# Altium schematic symbol library ArtsyCal.SCHLIB: 29 symbols
Pins are listed as number, name and electrical type; pins without a type are passive.

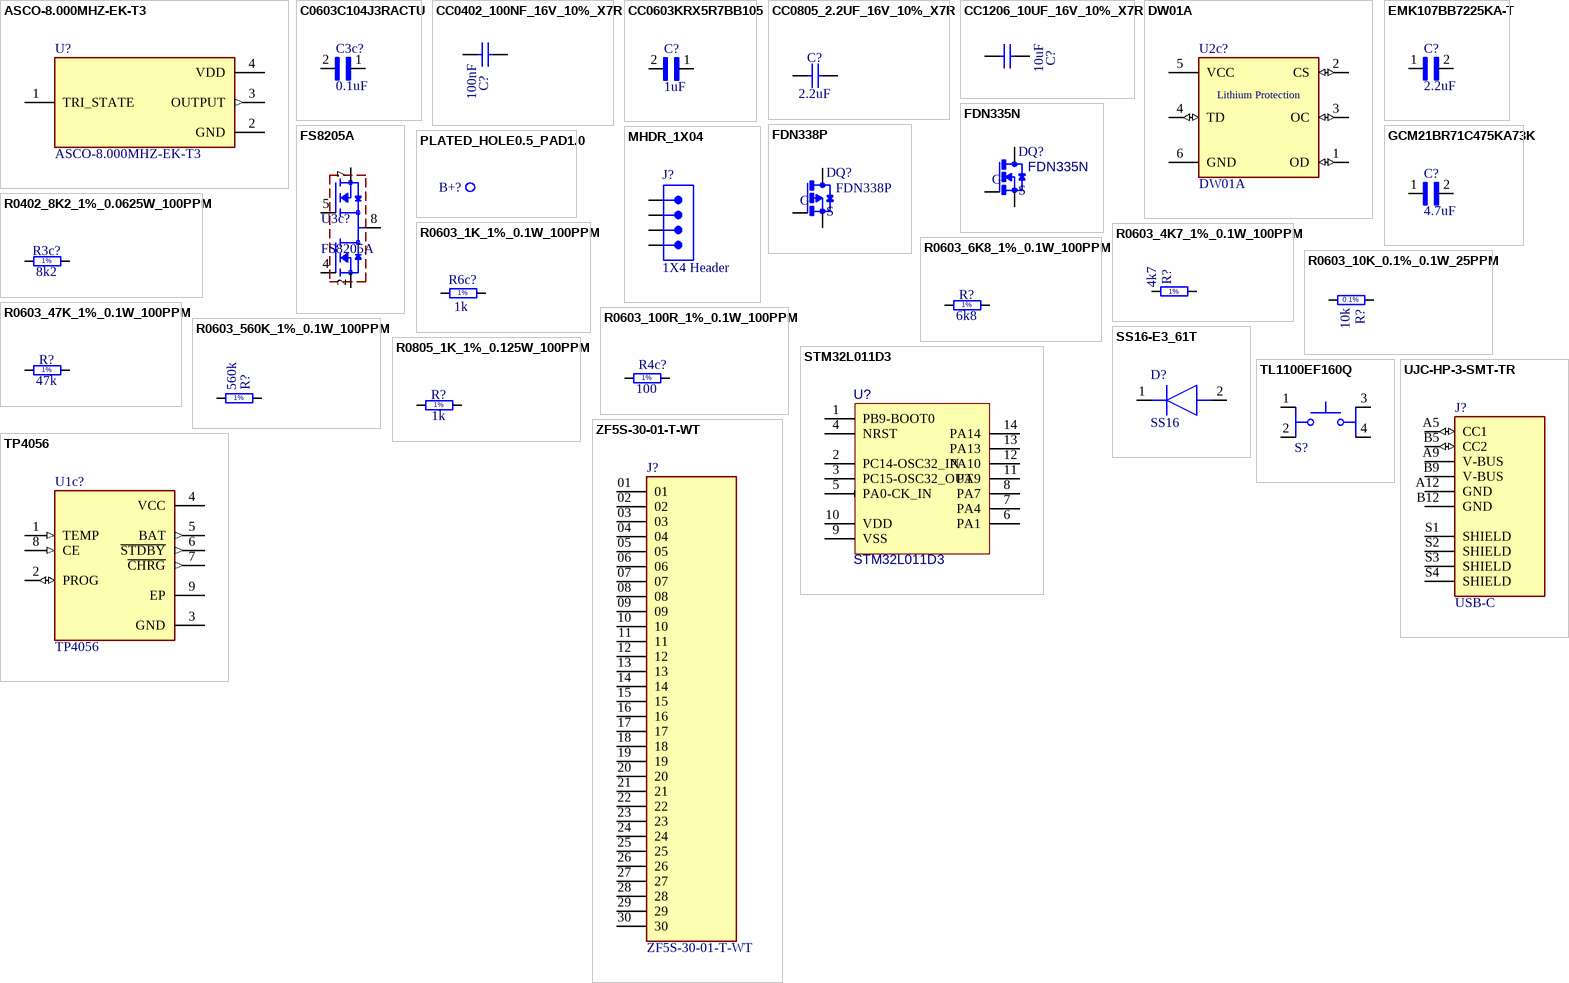
[diagram p0: symbols ASCO-8.000MHZ-EK-T3 to ZF5S-30-01-T-WT]

## ASCO-8.000MHZ-EK-T3
designator U?
Availability: Unavailable; Price: None; MP: ASCO-8.000MHZ-EK-T3; Package: None; Value: *
footprint XTAL_ASCO-8.000MHZ-EK-T3
pins: 1 TRI_STATE, 2 GND (power), 3 OUTPUT (out), 4 VDD (power)

## C0603C104J3RACTU
designator C3c?, comment 0.1uF
CAP CER 0.1UF 25V X7R 0603; MP: C0603C104J3RACTU; MF: {'manufacturer': u'KEMET'}; Value: 0.1uF; Package: None; Price: None; Availability: Unavailable
footprint CAPC1608X90
pins: 1, 2

## CC0402_100NF_16V_10%_X7R
designator C?, comment 100nF
Non-polarised capacitor; Part Number: CC0402_100NF_16V_10%_X7R; Part Description: SMD Multilayer Chip Ceramic Capacitor; Manufacturer: GENERIC; Manufacturer1 Part Number: GRM155R71C104KA88D; Voltage: 16V; TC: X7R; Tolerance: ±10%; Component Kind: Standard; Component Type: Standard; Footprint: CAPC1005X55N; Pin Count: 2; Value: 100nF; Status: Not Recommended; Manufacturer Part Number: CC0402_100NF_16V_10%_X7R; Case: 0402; Mounted: Yes; Socket: No; SMD: Yes; Sense: No; Manufacturer1 Example: MURATA; Manufacturer1 ComponentHeight: 0.55mm; HelpURL: \\cern.ch\dfs\Applications\Altium\Datasheets\CC0402_X7R_MURATA_GRM.pdf; Author: CERN DEM JLC; CreateDate: 12/5/2013; LatestRevisionDate: 12/3/2007
footprint CAPC1005X55N
pins: 1, 2

## CC0603KRX5R7BB105
designator C?, comment 1uF
1ÂµF Â±10% 16V Ceramic Capacitor X5R 0603 (1608 Metric); MP: CC0603KRX5R7BB105; MF: Yageo; Package: 0603 Yageo; SnapEDA_Link: https://www.snapeda.com/parts/CC0603KRX5R7BB105/Yageo/view-part/550330/?ref=snap; Purchase-URL: https://pricing.snapeda.com/search/part/CC0603KRX5R7BB105/?ref=eda; Value: *; Availability: Good; Price: None; Check_prices: https://www.snapeda.com/parts/CC0603KRX5R7BB105/Yageo/view-part/550330/?ref=eda
footprint CAPC1608X90
pins: 1, 2

## CC0805_2.2UF_16V_10%_X7R
designator C?, comment 2.2uF
Non-polarised capacitor; Part Number: CC0805_2.2UF_16V_10%_X7R; Part Description: SMD Multilayer Chip Ceramic Capacitor; Manufacturer: GENERIC; Manufacturer1 Part Number: GRM21BF51C225ZA01L; Voltage: 16V; TC: X7R; Tolerance: ±10%; Component Kind: Standard; Component Type: Standard; Footprint: CAPC2012X135N; Pin Count: 2; Value: 2.2uF; Status: Preferred; Manufacturer Part Number: CC0805_2.2UF_16V_10%_X7R; Case: 0805; Mounted: Yes; Socket: No; SMD: Yes; Sense: No; Manufacturer1 Example: MURATA; Manufacturer1 ComponentHeight: 1.5mm; HelpURL: \\cern.ch\dfs\Applications\Altium\Datasheets\CC0805_X7R_MURATA_GRM.pdf; Author: CERN DEM JLC; CreateDate: 03/12/2007; LatestRevisionDate: 18/09/2014
footprint CAPC2012X135N
pins: 1, 2

## CC1206_10UF_16V_10%_X7R
designator C?, comment 10uF
Non-polarised capacitor; Part Number: CC1206_10UF_16V_10%_X7R; Part Description: SMD Multilayer Chip Ceramic Capacitor; Manufacturer: GENERIC; Manufacturer1 Part Number: C1206C106K4RAC; Voltage: 16V; TC: X7R; Tolerance: ±10%; Component Kind: Standard; Component Type: Standard; Footprint: CAPC3216X140N; Pin Count: 2; Value: 10uF; Status: Preferred; Manufacturer Part Number: CC1206_10uF_16V_10%_X7R; Case: 1206; Mounted: Yes; Socket: No; SMD: Yes; Sense: No; Manufacturer1 Example: KEMET; Manufacturer1 ComponentHeight: 1.8mm; HelpURL: \\cern.ch\dfs\Applications\Altium\Datasheets\CC1206_X7R_KEMET.pdf; Author: CERN DEM JLC; CreateDate: 28/04/2009; LatestRevisionDate: 28/04/2009
footprint CAPC3216X140N
pins: 1, 2

## DW01A
designator U2c?
MF: {'manufacturer': u'Fortune Semiconductor'}; Price: None; Package: None; Value: *; MP: DW01A; Availability: Unavailable
footprint SOT23-6
pins: 1 OD (io), 2 CS (io), 3 OC (io), 4 TD (io), 5 VCC (power), 6 GND (power)
text: Lithium Protection

## EMK107BB7225KA-T
designator C?, comment 2.2uF
2.2ÂµF Â±10% 16V Ceramic Capacitor X7R 0603 (1608 Metric); MP: EMK107BB7225KA-T; MF: Taiyo Yuden; Package: 1608 Taiyo Yuden; Purchase-URL: https://pricing.snapeda.com/search/part/EMK107BB7225KA-T/?ref=eda; Check_prices: https://www.snapeda.com/parts/EMK107BB7225KA-T/Taiyo%20Yuden/view-part/1474310/?ref=eda; Digi-Key_Part_Number: 587-5835-1-ND; Value: *; SnapEDA_Link: https://www.snapeda.com/parts/EMK107BB7225KA-T/Taiyo%20Yuden/view-part/1474310/?ref=snap
footprint CAPC1709X100N
pins: 1, 2

## FDN335N
designator Q?
N-Channel 20V 1.7A _Ta_ 500mW _Ta_ Surface Mount SuperSOT-3; MF: ON Semiconductor; Value: *; Digi-Key_Purchase_URL: https://www.digikey.com.ar/product-detail/en/on-semiconductor/FDN335N/FDN335NCT-ND/965601?utm_source=snapeda&utm_medium=aggregator&utm_campaign=symbol; MP: FDN335N; Package: SC-59 ON Semiconductor; SnapEDA_Link: https://www.snapeda.com/parts/FDN335N/ON%20Semiconductor/view-part/1760117/?ref=snap; Digi-Key_Part_Number: FDN335NCT-ND
footprint SSOT-3
pins: 1 G, 2 S, 3 D

## FDN338P
designator Q?
P-Channel 20V 1.6A _Ta_ 500mW _Ta_ Surface Mount SuperSOT-3; MF: ON Semiconductor; Value: *; MP: FDN338P; SnapEDA_Link: https://www.snapeda.com/parts/FDN338P/ON%20Semiconductor/view-part/1741166/?ref=snap; Availability: Unavailable; Price: None; Package: SC-59 ON Semiconductor
footprint SSOT-3
pins: 1 G, 2 S, 3 D

## FS8205A
designator U3c?
N/A; MF: {'manufacturer': u'Fortune Semiconductor'}; Package: None; Value: *; Price: None; MP: FS8205A; Availability: Unavailable
footprint SOP65P640X120-8N
pins: 1 D12, 2 S1, 3 S1, 4 G1, 5 G2, 6 S2, 7 S2, 8 D12

## GCM21BR71C475KA73K
designator C?, comment 4.7uF
MF: {'manufacturer': u'Murata'}; MP: GCM21BR71C475KA73K; Availability: Unavailable; Price: None; Package: None; Value: 4.7uF
footprint CAPC2012X140N
pins: 1, 2

## MHDR_1X04
designator J?, comment 1X4 Header
Male Header 1X04
footprint MHDR1X04-254P (Male Header 1X04 with 2.54 mm Pitch)
pins: 1, 2, 3, 4
1 alternate drawing of the same symbol

## PLATED_HOLE0.5_PAD1.0
designator B+?, comment Plated Hole  (value not drawn)  (no BOM)
Single Terminal Socket; Part Number: PLATED_HOLE0.5_PAD1.0; Part Description: Plated Through Hole: Hole Dia.=0.5mm Pad Dia.=1.0mm; Mounted: No; Component Type: Standard (No BOM); Footprint: c100h50; Pin Count: 1; Family: Plated Hole; Socket: No; SMD: No; Sense: No; Status: None; ComponentHeight: 0mm; HelpURL: Undefined; Author: CERN DEM JMW; CreateDate: 06/01/2020; LatestRevisionDate: 06/01/2020; PackageDescription: Plated Through Hole: Hole Dia.=0.5mm Pad Dia.=1.0mm
footprint c100h50
pins: 1 (io)

## R0402_8K2_1%_0.0625W_100PPM
designator R3c?, comment 8k2
Resistor - 1%; Part Number: R0402_8K2_1%_0.0625W_100PPM; Part Description: General Purpose Thick Film Chip Resistor; Manufacturer: GENERIC; Manufacturer1 Part Number: 232270678202L; Power: 0.0625W; TC: ±100ppm/°C; PressFit: No; Component Kind: Standard; Component Type: Standard; Footprint: RESC1005X40N; Pin Count: 2; Value: 8k2; Status: Not Recommended; Tolerance: ±1%; Manufacturer Part Number: R0402_8K2_1%_0.0625W_100PPM; Case: 0402; Mounted: Yes; Sense: No; Socket: No; SMD: Yes; Manufacturer1 Example: YAGEO PHYCOMP; Manufacturer1 ComponentHeight: 0.4mm; HelpURL: \\cern.ch\dfs\Applications\Altium\Datasheets\R0402_Phycomp_RC0402.pdf; Author: CERN DEM JLC; CreateDate: 03/12/2007; LatestRevisionDate: 17/10/2012
footprint RESC1005X40N
pins: 1, 2
text: 1%

## R0603_1K_1%_0.1W_100PPM
designator R6c?, comment 1k
Resistor - 1%; Part Number: R0603_1K_1%_0.1W_100PPM; Part Description: General Purpose Thick Film Chip Resistor; Manufacturer: GENERIC; Manufacturer1 Part Number: NRC06F1001TRF; Power: 0.1W; TC: ±100ppm/°C; PressFit: No; Component Kind: Standard; Component Type: Standard; Footprint: RESC1608X55N; Pin Count: 2; Value: 1k; Status: Preferred; Tolerance: ±1%; Manufacturer Part Number: R0603_1K_1%_0.1W_100PPM; Case: 0603; Mounted: Yes; Sense: No; Socket: No; SMD: Yes; Manufacturer1 Example: NIC COMPONENT; Manufacturer1 ComponentHeight: 0.55mm; HelpURL: \\cern.ch\dfs\Applications\Altium\Datasheets\R0603_NIC_NRC.pdf; Author: CERN DEM JLC; CreateDate: 12/3/2007; LatestRevisionDate: 3/13/2008
footprint RESC1608X55N
pins: 1, 2
text: 1%

## R0603_4K7_1%_0.1W_100PPM
designator R?, comment 4k7
Resistor - 1%; Part Number: R0603_4K7_1%_0.1W_100PPM; Part Description: General Purpose Thick Film Chip Resistor; Manufacturer: GENERIC; Manufacturer1 Part Number: NRC06F4701TRF; Power: 0.1W; TC: ±100ppm/°C; PressFit: No; Component Kind: Standard; Component Type: Standard; Footprint: RESC1608X55N; Pin Count: 2; Value: 4k7; Status: Preferred; Tolerance: ±1%; Manufacturer Part Number: R0603_4K7_1%_0.1W_100PPM; Case: 0603; Mounted: Yes; Sense: No; Socket: No; SMD: Yes; Manufacturer1 Example: NIC COMPONENT; Manufacturer1 ComponentHeight: 0.55mm; HelpURL: \\cern.ch\dfs\Applications\Altium\Datasheets\R0603_NIC_NRC.pdf; Author: CERN DEM JLC; CreateDate: 03/12/2007; LatestRevisionDate: 13/03/2008
footprint RESC1608X55N
pins: 1, 2
text: 1%

## R0603_6K8_1%_0.1W_100PPM
designator R?, comment 6k8
Resistor - 1%; Part Number: R0603_6K8_1%_0.1W_100PPM; Part Description: General Purpose Thick Film Chip Resistor; Manufacturer: GENERIC; Manufacturer1 Part Number: NRC06F6801TRF; Power: 0.1W; TC: ±100ppm/°C; PressFit: No; Component Kind: Standard; Component Type: Standard; Footprint: RESC1608X55N; Pin Count: 2; Value: 6k8; Status: Preferred; Tolerance: ±1%; Manufacturer Part Number: R0603_6K8_1%_0.1W_100PPM; Case: 0603; Mounted: Yes; Sense: No; Socket: No; SMD: Yes; Manufacturer1 Example: NIC COMPONENT; Manufacturer1 ComponentHeight: 0.55mm; HelpURL: \\cern.ch\dfs\Applications\Altium\Datasheets\R0603_NIC_NRC.pdf; Author: CERN DEM JLC; CreateDate: 03/12/2007; LatestRevisionDate: 13/03/2008
footprint RESC1608X55N
pins: 1, 2
text: 1%

## R0603_10K_0.1%_0.1W_25PPM
designator R?, comment 10k
Resistor - 0.1%; Part Number: R0603_10K_0.1%_0.1W_25PPM; Part Description: Thin Film Chip Resistor; Manufacturer: GENERIC; Manufacturer1 Part Number: ERA3AEB103V; Power: 0.1W; TC: ±25ppm/°C; PressFit: No; Component Kind: Standard; Component Type: Standard; Footprint: RESC1608X64N; Pin Count: 2; Value: 10k; Status: Not Recommended; Tolerance: ±0.1%; Manufacturer Part Number: R0603_10K_0.1%_0.1W_25PPM; Case: 0603; Mounted: Yes; Sense: No; Socket: No; SMD: Yes; Manufacturer1 Example: PANASONIC; Manufacturer1 ComponentHeight: 0.55mm; HelpURL: \\cern.ch\dfs\Applications\Altium\Datasheets\R0603_PANASONIC_ERA.pdf; Author: CERN DEM JMW; CreateDate: 11/9/2015; LatestRevisionDate: 1/11/2017
footprint RESC1608X64N
pins: 1, 2
text: 0.1%

## R0603_47K_1%_0.1W_100PPM
designator R?, comment 47k
Resistor - 1%; Part Number: R0603_47K_1%_0.1W_100PPM; Part Description: General Purpose Thick Film Chip Resistor; Manufacturer: GENERIC; Manufacturer1 Part Number: NRC06F4702TRF; Power: 0.1W; TC: ±100ppm/°C; PressFit: No; Component Kind: Standard; Component Type: Standard; Footprint: RESC1608X55N; Pin Count: 2; Value: 47k; Status: Preferred; Tolerance: ±1%; Manufacturer Part Number: R0603_47K_1%_0.1W_100PPM; Case: 0603; Mounted: Yes; Sense: No; Socket: No; SMD: Yes; Manufacturer1 Example: NIC COMPONENT; Manufacturer1 ComponentHeight: 0.55mm; HelpURL: \\cern.ch\dfs\Applications\Altium\Datasheets\R0603_NIC_NRC.pdf; Author: CERN DEM JLC; CreateDate: 03/12/2007; LatestRevisionDate: 13/03/2008
footprint RESC1608X55N
pins: 1, 2
text: 1%

## R0603_100R_1%_0.1W_100PPM
designator R4c?, comment 100
Resistor - 1%; Part Number: R0603_100R_1%_0.1W_100PPM; Part Description: General Purpose Thick Film Chip Resistor; Manufacturer: GENERIC; Manufacturer1 Part Number: NRC06F4700TRF; Power: 0.1W; TC: ±100ppm/°C; PressFit: No; Component Kind: Standard; Component Type: Standard; Footprint: RESC1608X55N; Pin Count: 2; Value: 100; Status: Preferred; Tolerance: ±1%; Manufacturer Part Number: R0603_100R_1%_0.1W_100PPM; Case: 0603; Mounted: Yes; Sense: No; Socket: No; SMD: Yes; Manufacturer1 Example: NIC COMPONENT; Manufacturer1 ComponentHeight: 0.55mm; HelpURL: \\cern.ch\dfs\Applications\Altium\Datasheets\R0603_NIC_NRC.pdf; Author: CERN DEM JLC; CreateDate: 12/3/2007; LatestRevisionDate: 3/13/2008
footprint RESC1608X55N
pins: 1, 2
text: 1%

## R0603_560K_1%_0.1W_100PPM
designator R?, comment 560k
Resistor - 1%; Part Number: R0603_560K_1%_0.1W_100PPM; Part Description: General Purpose Thick Film Chip Resistor; Manufacturer: GENERIC; Manufacturer1 Part Number: NRC06F5603TRF; Power: 0.1W; TC: ±100ppm/°C; PressFit: No; Component Kind: Standard; Component Type: Standard; Footprint: RESC1608X55N; Pin Count: 2; Value: 560k; Status: Preferred; Tolerance: ±1%; Manufacturer Part Number: R0603_560K_1%_0.1W_100PPM; Case: 0603; Mounted: Yes; Sense: No; Socket: No; SMD: Yes; Manufacturer1 Example: NIC COMPONENT; Manufacturer1 ComponentHeight: 0.55mm; HelpURL: \\cern.ch\dfs\Applications\Altium\Datasheets\R0603_NIC_NRC.pdf; Author: CERN DEM JLC; CreateDate: 03/12/2007; LatestRevisionDate: 13/03/2008
footprint RESC1608X55N
pins: 1, 2
text: 1%

## R0805_1K_1%_0.125W_100PPM
designator R?, comment 1k
Resistor - 1%; Part Number: R0805_1K_1%_0.125W_100PPM; Part Description: General Purpose Thick Film Chip Resistor; Manufacturer: GENERIC; Manufacturer1 Part Number: NRC10F1001TRF; Power: 0.125W; TC: ±100ppm/°C; PressFit: No; Component Kind: Standard; Component Type: Standard; Footprint: RESC2012X60N; Pin Count: 2; Value: 1k; Status: Preferred; Tolerance: ±1%; Manufacturer Part Number: R0805_1K_1%_0.125W_100PPM; Case: 0805; Mounted: Yes; Sense: No; Socket: No; SMD: Yes; Manufacturer1 Example: NIC COMPONENT; Manufacturer1 ComponentHeight: 0.6mm; HelpURL: \\cern.ch\dfs\Applications\Altium\Datasheets\R0805_NIC_NRC.pdf; Author: CERN DEM JLC; CreateDate: 03/12/2007; LatestRevisionDate: 13/03/2008
footprint RESC2012X60N
pins: 1, 2
text: 1%

## SS16-E3_61T
designator D?, comment SS16
Diode; Manufacturer_Name: Vishay; Manufacturer_Part_Number: SS16-E3/61T; Datasheet Link: https://componentsearchengine.com/Datasheets/2/SS16-E3_61T.pdf; Height: 2.29mm; Mouser Part Number: 625-SS16-E3; Mouser Price/Stock: https://www.mouser.co.uk/ProductDetail/Vishay-General-Semiconductor/SS16-E3-61T?qs=x2jpVgRnAtMiLlJLdPGu3w%3D%3D; Arrow Part Number: SS16-E3/61T; Arrow Price/Stock: https://www.arrow.com/en/products/ss16-e361t/vishay?region=europe
footprint DIOM5127X229N
pins: 1 K, 2 A

## STM32L011D3
designator U?
footprint STM32L011D3 (TSSOP-14)
pins: 1 PB9-BOOT0, 2 PC14-OSC32_IN, 3 PC15-OSC32_OUT, 4 NRST, 5 PA0-CK_IN, 6 PA1, 7 PA4, 8 PA7, 9 VSS, 10 VDD, 11 PA9, 12 PA10, 13 PA13, 14 PA14

## TL1100EF160Q
designator S?  (value not drawn)
Tactile Switch SPST-NO Top Actuated Through Hole; MF: E-Switch; Value: *; SnapEDA_Link: https://www.snapeda.com/parts/TL1100EF160Q/E-Switch/view-part/?ref=snap; Purchase-URL: https://pricing.snapeda.com/search/part/TL1100EF160Q/?ref=eda; Availability: In Stock; Price: None; Package: None; Check_prices: https://www.snapeda.com/parts/TL1100EF160Q/E-Switch/view-part/?ref=eda; MP: TL1100EF160Q
footprint SW_TL1100EF160Q
pins: 1, 2, 3, 4

## TP4056
designator U1c?
Complete single cell Li-Ion battery with a constant current / constant voltage linear charger; MF: {'manufacturer': u'NanJing Top Power ASIC Corp.'}; Price: None; Package: None; Value: *; MP: TP4056; Availability: Unavailable
footprint SOP127P600X175-9N
pins: 1 TEMP (in), 2 PROG (io), 3 GND (power), 4 VCC (power), 5 BAT (out), 6 ~{STDBY} (out), 7 ~{CHRG} (out), 8 CE (in), 9 EP

## UJC-HP-3-SMT-TR
designator J?, comment USB-C
Type C, 3 A, Right Angle, Surface Mount (SMT), Power-Only USB Receptacle; MP: UJC-HP-3-SMT-TR; MF: {'manufacturer': u'CUI Devices'}; Value: *; Package: None; Price: None; Availability: Unavailable
footprint CUI_UJC-HP-3-SMT-TR
pins: A5 CC1 (io), A9 V-BUS (power), A12 GND (power), B5 CC2 (io), B9 V-BUS (power), B12 GND (power), S1 SHIELD, S2 SHIELD, S3 SHIELD, S4 SHIELD

## ZF5S-30-01-T-WT
designator J?
ZERO INSERTION FORCE .5MM ASSEMB; MF: Samtec Inc.; MP: ZF5S-30-01-T-WT-TR; Availability: Unavailable; Toby_UK-Purchase-URL: https://snapeda.com/shop?store=Toby+UK&id=4799814; SnapEDA_Link: https://www.snapeda.com/parts/ZF5S-30-01-T-WT-TR/Samtec/view-part/4799814/?ref=snap; Value: *; Price: None; Package: None
footprint SAMTEC_ZF5S-30-01-T-WT
pins: 01, 02, 03, 04, 05, 06, 07, 08, 09, 10, 11, 12, 13, 14, 15, 16, 17, 18, 19, 20, 21, 22, 23, 24, 25, 26, 27, 28, 29, 30